# EAGLE library part LM2575 (library omcPwrSupply)
LM2575 - SIMPLE SWITCHER® 1A Step-Down Voltage Regulator 3.3V, 5V, 12V, 15V, and adjustable output versions Adjustable version output voltage range, 1.23V to 37V (57V for HV version) ±4% max over line and load conditions Guaranteed 1A output current Wide input voltage range, 40V up to 60V for HV version Requires only 4 external components 52 kHz fixed frequency internal oscillator TTL shutdown capability, low power standby mode High efficiency Uses readily available standard inductors Thermal shutdown and current limit protection P+ Product Enhancement tested Protection against feedback disconnection Texas Instruments Datasheet <http://www.ti.com/lit/ds/symlink/lm1575.pdf> Reichelt Datasheet <http://cdn-reichelt.de/documents/datenblatt/A200/LM2575-NAT.pdf>
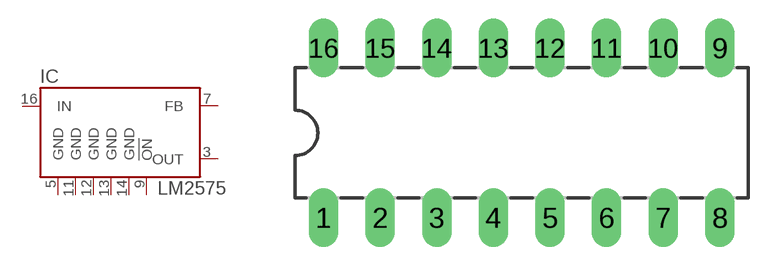
[diagram p2: symbol with the pads of DIL16; footprint DIL16]

Designator prefix IC

## LM2575N (DIST#REICHELT#: LM 2575 N-ADJ; VALUE: LM2575N)  [DIL16]
3  OUT  out
5  GND  pwr
7  FB  pas
9  !ON  pas
11  GND  pwr
12  GND  pwr
13  GND  pwr
14  GND  pwr
16  IN  pwr

## Footprint DIL16 (pad centres in mm)
DIL16 THT Dual-in-line package 19.94mm×7.62mm Wikipedia <https://en.wikipedia.org/wiki/Dual_in-line_package>
drill 0.813 long: 1 -8.89,-3.81; 2 -6.35,-3.81; 3 -3.81,-3.81; 4 -1.27,-3.81; 5 1.27,-3.81; 6 3.81,-3.81; 7 6.35,-3.81; 8 8.89,-3.81; 9 8.89,3.81; 10 6.35,3.81; 11 3.81,3.81; 12 1.27,3.81; 13 -1.27,3.81; 14 -3.81,3.81; 15 -6.35,3.81; 16 -8.89,3.81